# EAGLE library part ICE5LP2K-SG48ITR (library FPGA)
Ic Fpga 1100luts 1.2v 48qfn
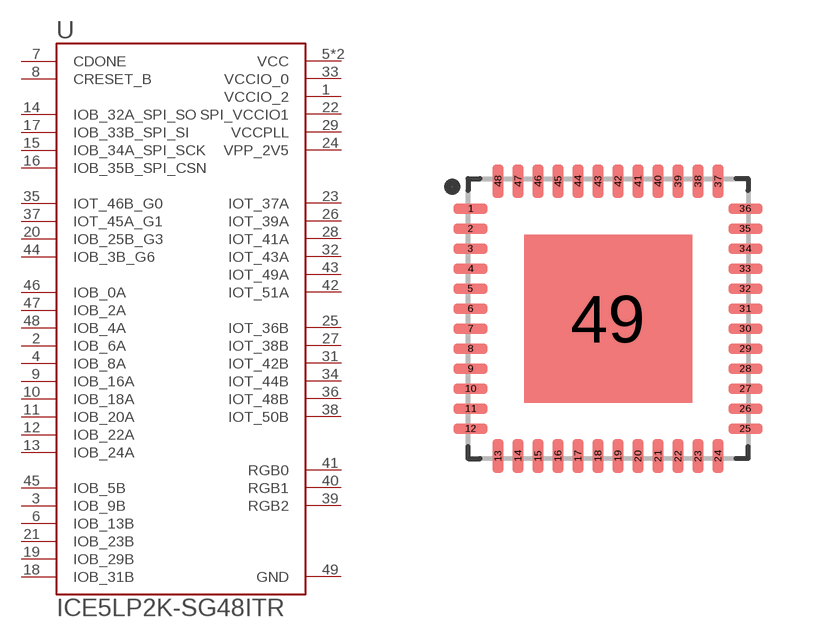
[diagram p4: symbol with the pads of QFN50P700X700X100-49N; footprint QFN50P700X700X100-49N]

Designator prefix U

## ICE5LP2K-SG48ITR (DESCRIPTION: 1100logic cells 48 pin QFN industrial temp reels; DIGI-KEY_PART_NUMBER: 220-2155-1-ND; DIGI-KEY_PURCHASE_URL: https://www.digikey.com/product-detail/en/lattice-semiconductor-corporation/ICE5LP1K-SG48ITR/220-2155-1-ND/8255949?utm_source=snapeda&utm_medium=aggregator&utm_campaign=symbol; MF: Lattice Semiconductor; MP: ICE5LP1K-SG48ITR; PACKAGE: QFN-48 Lattice Semiconductor)  [QFN50P700X700X100-49N]
1  VCCIO_2  pwr
2  IOB_6A
3  IOB_9B
4  IOB_8A
5  VCC  pwr
6  IOB_13B
7  CDONE  in
8  CRESET_B  in
9  IOB_16A
10  IOB_18A
11  IOB_20A
12  IOB_22A
13  IOB_24A
14  IOB_32A_SPI_SO
15  IOB_34A_SPI_SCK
16  IOB_35B_SPI_CSN
17  IOB_33B_SPI_SI
18  IOB_31B
19  IOB_29B
20  IOB_25B_G3
21  IOB_23B
22  SPI_VCCIO1  pwr
23  IOT_37A
24  VPP_2V5  pwr
25  IOT_36B
26  IOT_39A
27  IOT_38B
28  IOT_41A
29  VCCPLL  pwr
30  VCC  pwr
31  IOT_42B
32  IOT_43A
33  VCCIO_0  pwr
34  IOT_44B
35  IOT_46B_G0
36  IOT_48B
37  IOT_45A_G1
38  IOT_50B
39  RGB2  pas
40  RGB1  pas
41  RGB0  pas
42  IOT_51A
43  IOT_49A
44  IOB_3B_G6
45  IOB_5B
46  IOB_0A
47  IOB_2A
48  IOB_4A
49  GND  pwr

## Footprint QFN50P700X700X100-49N (pad centres in mm)
smd 0.84 x 0.26: 1 -3.435,2.75; 2 -3.435,2.25; 3 -3.435,1.75; 4 -3.435,1.25; 5 -3.435,0.75; 6 -3.435,0.25; 7 -3.435,-0.25; 8 -3.435,-0.75; 9 -3.435,-1.25; 10 -3.435,-1.75; 11 -3.435,-2.25; 12 -3.435,-2.75; 25 3.435,-2.75; 26 3.435,-2.25; 27 3.435,-1.75; 28 3.435,-1.25; 29 3.435,-0.75; 30 3.435,-0.25; 31 3.435,0.25; 32 3.435,0.75; 33 3.435,1.25; 34 3.435,1.75; 35 3.435,2.25; 36 3.435,2.75
smd 0.26 x 0.84: 13 -2.75,-3.435; 14 -2.25,-3.435; 15 -1.75,-3.435; 16 -1.25,-3.435; 17 -0.75,-3.435; 18 -0.25,-3.435; 19 0.25,-3.435; 20 0.75,-3.435; 21 1.25,-3.435; 22 1.75,-3.435; 23 2.25,-3.435; 24 2.75,-3.435; 37 2.75,3.435; 38 2.25,3.435; 39 1.75,3.435; 40 1.25,3.435; 41 0.75,3.435; 42 0.25,3.435; 43 -0.25,3.435; 44 -0.75,3.435; 45 -1.25,3.435; 46 -1.75,3.435; 47 -2.25,3.435; 48 -2.75,3.435
smd 4.2 x 4.2: 49 0,0